# EAGLE library part STM32F103CBT6 (library st-microelectronics)
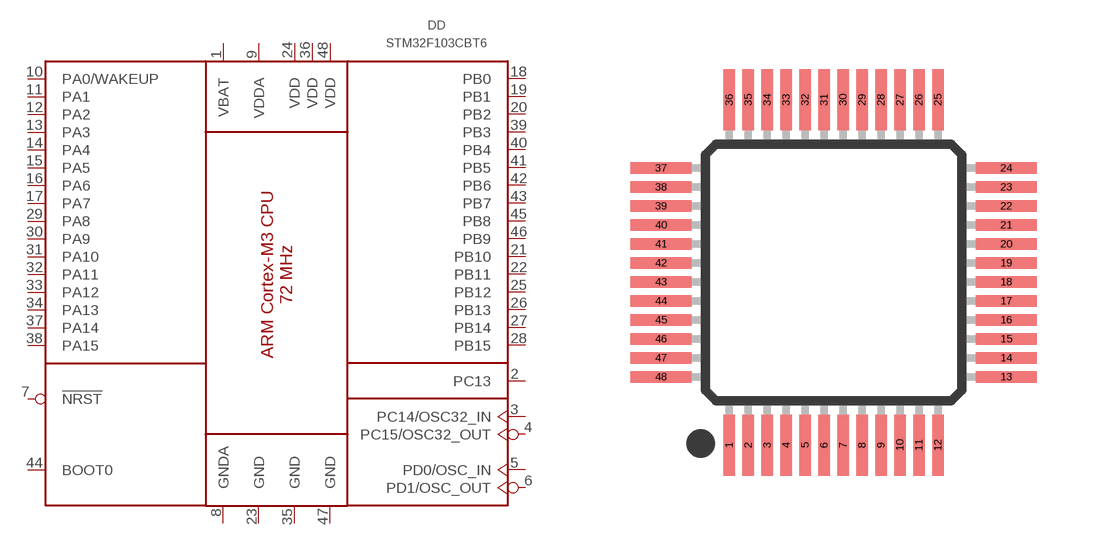
[diagram p14: symbol with the pads of LQFP48; footprint LQFP48]

Designator prefix DD

## STM32F103CBT6  [LQFP48]
1  VBAT  pwr
2  PC13
3  PC14/OSC32_IN
4  PC15/OSC32_OUT
5  PD0/OSC_IN
6  PD1/OSC_OUT
7  !NRST  in
8  GNDA  pwr
9  VDDA  pwr
10  PA0/WAKEUP
11  PA1
12  PA2
13  PA3
14  PA4
15  PA5
16  PA6
17  PA7
18  PB0
19  PB1
20  PB2
21  PB10
22  PB11
23  GND  pwr
24  VDD  pwr
25  PB12
26  PB13
27  PB14
28  PB15
29  PA8
30  PA9
31  PA10
32  PA11
33  PA12
34  PA13
35  GND  pwr
36  VDD  pwr
37  PA14
38  PA15
39  PB3
40  PB4
41  PB5
42  PB6
43  PB7
44  BOOT0  in
45  PB8
46  PB9
47  GND  pwr
48  VDD  pwr

## Footprint LQFP48 (pad centres in mm)
48-pin plastic LQFP (FPT-48P-M26) www.fma.fujitsu.com/pdf/e713717.pdf
smd 0.3 x 1.6: 1 -2.75,-4.55; 2 -2.25,-4.55; 3 -1.75,-4.55; 4 -1.25,-4.55; 5 -0.75,-4.55; 6 -0.25,-4.55; 7 0.25,-4.55; 8 0.75,-4.55; 9 1.25,-4.55; 10 1.75,-4.55; 11 2.25,-4.55; 12 2.75,-4.55; 25 2.75,4.55; 26 2.25,4.55; 27 1.75,4.55; 28 1.25,4.55; 29 0.75,4.55; 30 0.25,4.55; 31 -0.25,4.55; 32 -0.75,4.55; 33 -1.25,4.55; 34 -1.75,4.55; 35 -2.25,4.55; 36 -2.75,4.55
smd 1.6 x 0.3: 13 4.55,-2.75; 14 4.55,-2.25; 15 4.55,-1.75; 16 4.55,-1.25; 17 4.55,-0.75; 18 4.55,-0.25; 19 4.55,0.25; 20 4.55,0.75; 21 4.55,1.25; 22 4.55,1.75; 23 4.55,2.25; 24 4.55,2.75; 37 -4.55,2.75; 38 -4.55,2.25; 39 -4.55,1.75; 40 -4.55,1.25; 41 -4.55,0.75; 42 -4.55,0.25; 43 -4.55,-0.25; 44 -4.55,-0.75; 45 -4.55,-1.25; 46 -4.55,-1.75; 47 -4.55,-2.25; 48 -4.55,-2.75